# Altium footprint library LEDC1608X90N.PcbLib: 1 footprints
Each footprint in its own frame and in the unit in brackets; x right, y up, seen from the top. Pads: shape width x height; smd on the part's side, far side on the other; paste and mask are expansions set on the pad; w line width, h text height; cw(c..) or ccw(c..) is an arc to the next point about the centre after c.
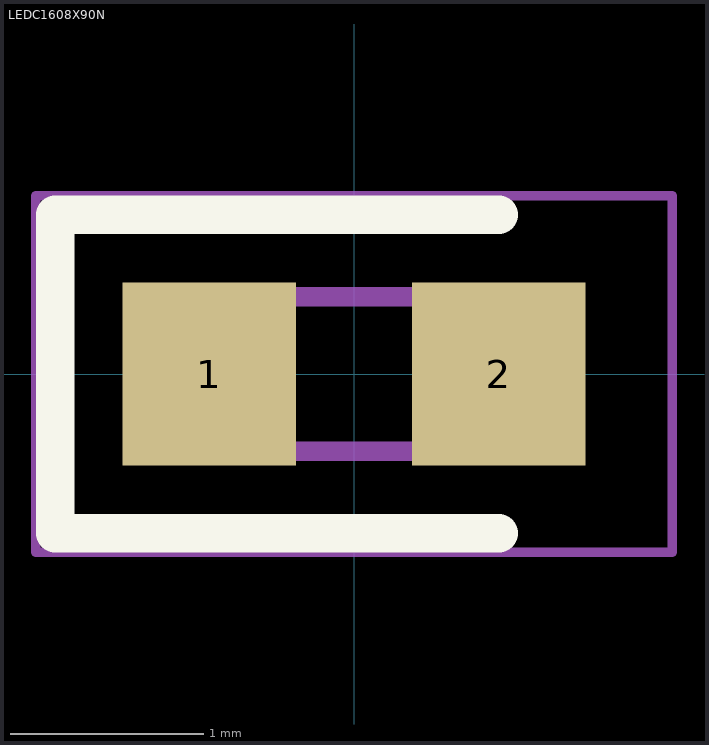
[diagram p0: the footprint, top view; thin cyan lines are the x and y axes]

## LEDC1608X90N [mm]
pads (2):
  rect 0.9x0.95 smd: 1(-0.75,0) 2(0.75,0)
L26-Silk Screen Top (Multiple PADS layers...):
  lines w0.2: 0.75,-0.825 -1.55,-0.825 -1.55,0.825 0.75,0.825
L15 (Multiple PADS layers...):
  lines w0.1: -0.8,0.133 -0.533,0.4 ; -0.8,-0.4 0.8,-0.4 0.8,0.4 -0.8,0.4 -0.8,-0.4
L20:
  lines w0.05: -1.65,-0.925 1.65,-0.925 1.65,0.925 -1.65,0.925 -1.65,-0.925